# EAGLE library part TPL0102 (library graftel-internal-ic)
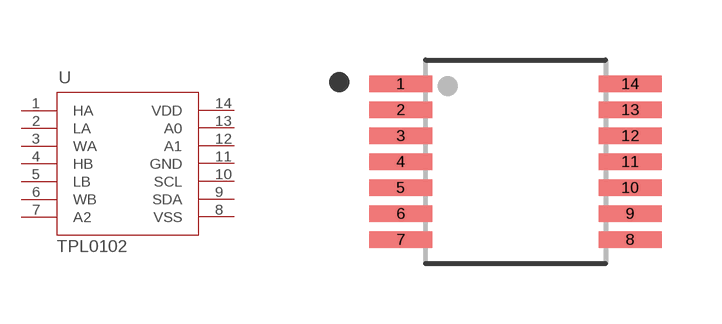
[diagram p64: symbol with the pads of SOP65P640X120-14N; footprint SOP65P640X120-14N]

Designator prefix U

## TPL0102  [SOP65P640X120-14N]
1  HA
2  LA
3  WA
4  HB
5  LB
6  WB
7  A2
8  VSS
9  SDA
10  SCL
11  GND
12  A1
13  A0
14  VDD

## Footprint SOP65P640X120-14N (pad centres in mm)
smd 1.57 x 0.41: 1 -2.87,1.95; 2 -2.87,1.3; 3 -2.87,0.65; 4 -2.87,0; 5 -2.87,-0.65; 6 -2.87,-1.3; 7 -2.87,-1.95; 8 2.87,-1.95; 9 2.87,-1.3; 10 2.87,-0.65; 11 2.87,0; 12 2.87,0.65; 13 2.87,1.3; 14 2.87,1.95